# EAGLE library part PIC24FJ32GB004 (library Parts)
PIC24FJ32GB004 edit this description Auto generated by make-symbol-device-package-bsdl.ulp Rev. 25 Source: PIC24FJ32GB004.bsd
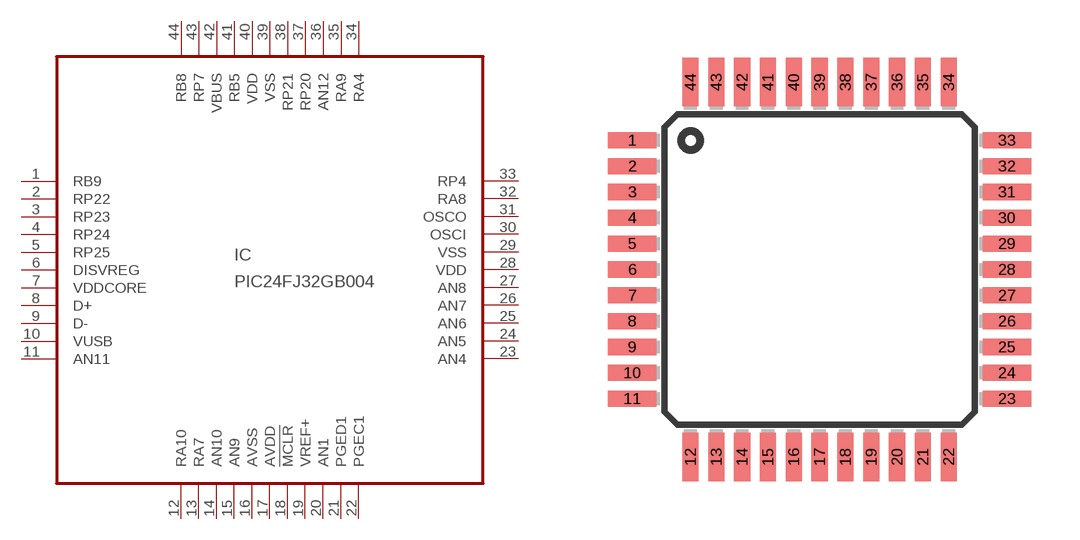
[diagram p0: symbol with the pads of TQFP44; footprint TQFP44]

Designator prefix IC

## PIC24FJ32GB004 (MPN: PIC24FJ32GB004-E/PT)  [TQFP44]
1  RB9
2  RP22
3  RP23
4  RP24
5  RP25
6  DISVREG  pas
7  VDDCORE  pwr
8  D+
9  D-
10  VUSB
11  AN11
12  RA10  in
13  RA7
14  AN10
15  AN9
16  AVSS  pwr
17  AVDD  pwr
18  !MCLR
19  VREF+
20  AN1
21  PGED1
22  PGEC1
23  AN4
24  AN5
25  AN6
26  AN7
27  AN8
28  VDD  pwr
29  VSS  pwr
30  OSCI
31  OSCO
32  RA8  out
33  RP4
34  RA4
35  RA9
36  AN12
37  RP20
38  RP21
39  VSS  pwr
40  VDD  pwr
41  RB5
42  VBUS
43  RP7
44  RB8

## Footprint TQFP44 (pad centres in mm)
Thin Quad Flat Pack package type TQ
smd 1.5 x 0.5: 1 -5.8,4; 2 -5.8,3.2; 3 -5.8,2.4; 4 -5.8,1.6; 5 -5.8,0.8; 6 -5.8,0; 7 -5.8,-0.8; 8 -5.8,-1.6; 9 -5.8,-2.4; 10 -5.8,-3.2; 11 -5.8,-4; 23 5.8,-4; 24 5.8,-3.2; 25 5.8,-2.4; 26 5.8,-1.6; 27 5.8,-0.8; 28 5.8,0; 29 5.8,0.8; 30 5.8,1.6; 31 5.8,2.4; 32 5.8,3.2; 33 5.8,4
smd 0.5 x 1.5: 12 -4,-5.8; 13 -3.2,-5.8; 14 -2.4,-5.8; 15 -1.6,-5.8; 16 -0.8,-5.8; 17 0,-5.8; 18 0.8,-5.8; 19 1.6,-5.8; 20 2.4,-5.8; 21 3.2,-5.8; 22 4,-5.8; 34 4,5.8; 35 3.2,5.8; 36 2.4,5.8; 37 1.6,5.8; 38 0.8,5.8; 39 0,5.8; 40 -0.8,5.8; 41 -1.6,5.8; 42 -2.4,5.8; 43 -3.2,5.8; 44 -4,5.8